# Altium footprint library F407ZGT6.PcbLib: 60 footprints (part 2 of 4)
Each footprint in its own frame and in the unit in brackets; x right, y up, seen from the top. Pads: shape width x height; smd on the part's side, far side on the other; paste and mask are expansions set on the pad; w line width, h text height; cw(c..) or ccw(c..) is an arc to the next point about the centre after c.
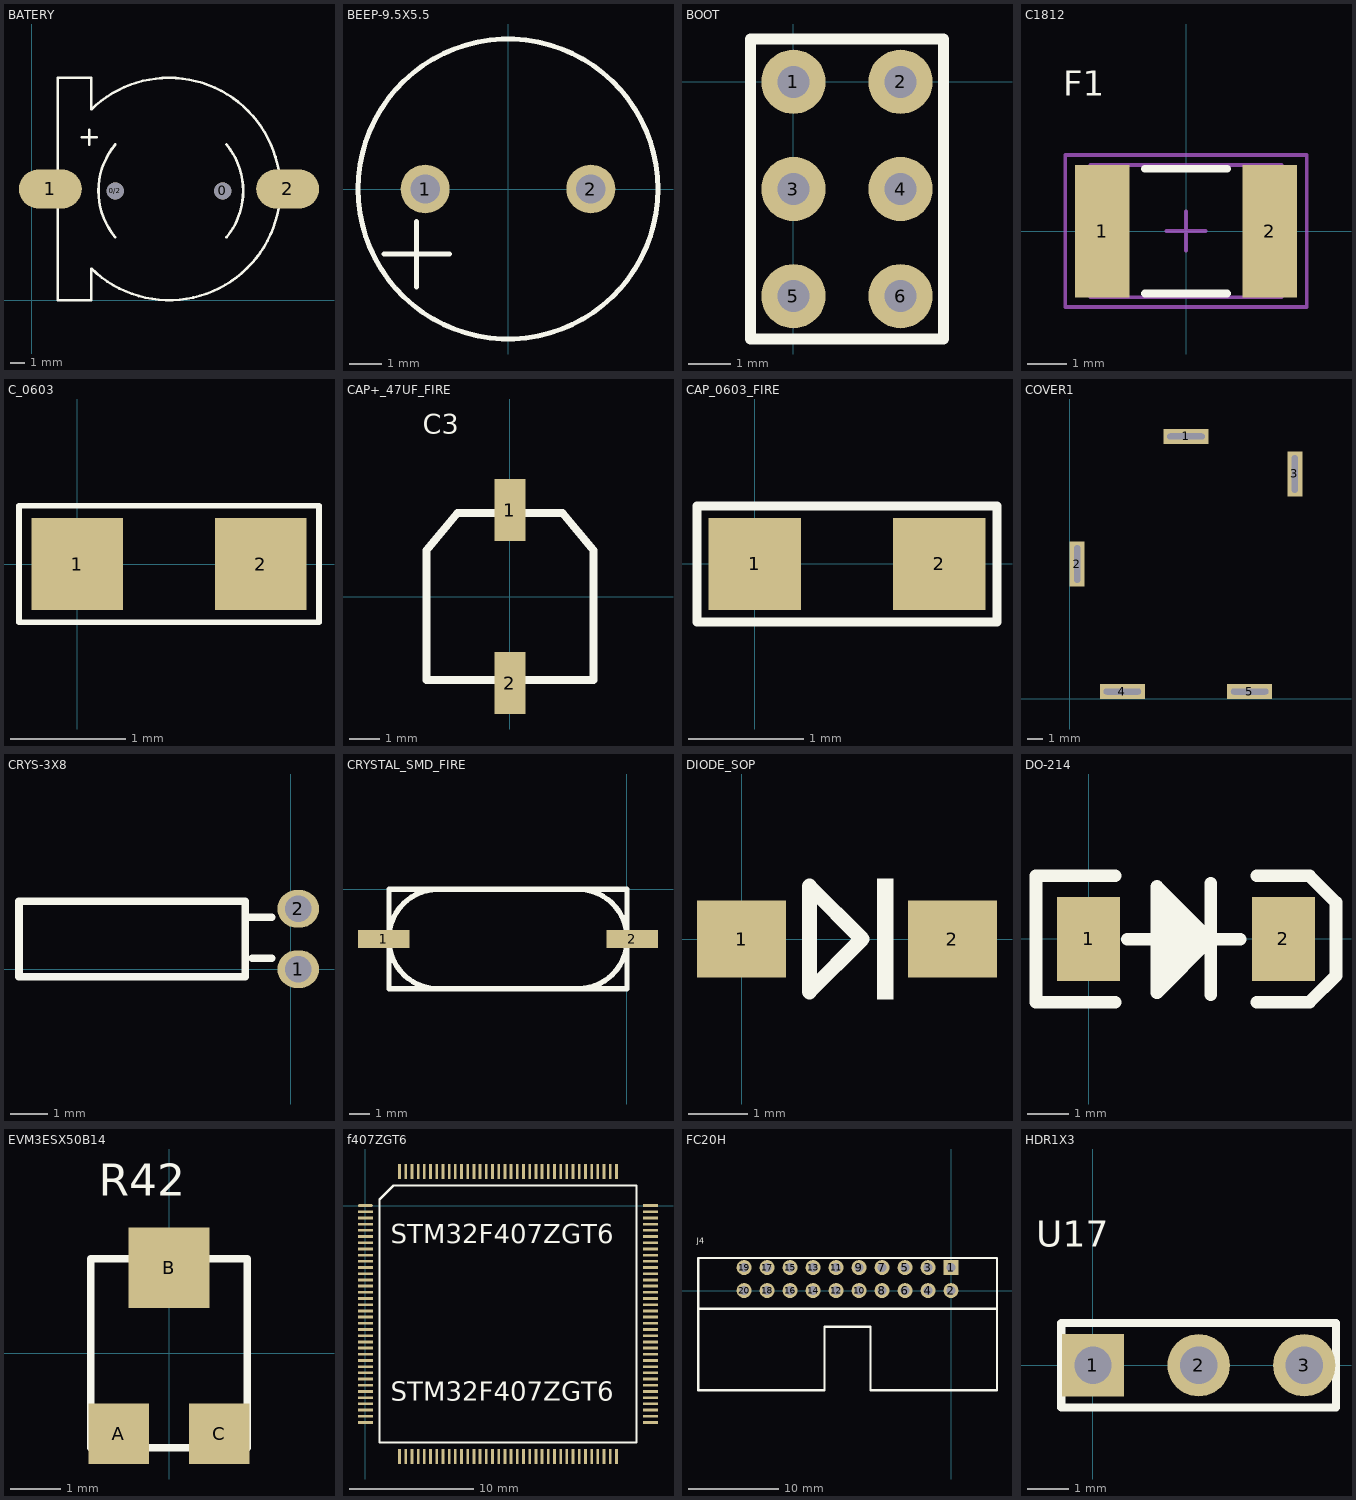
[diagram p1: the footprints below, top view; thin cyan lines are the x and y axes]

## BATERY [mil]
pads (4):
  round 46 hole 46: 0(515,295) 0/2(225,295)
  oval 169.29x106.3 smd: 1(50,300) 2(690,300)
Top Overlay:
  lines w7: 135,440 175,440 ; 155,420 155,460 ; 160.38,85.39 160,0 70,0 70,300 70,600 160,600 160.38,514.61 ; 160.48,85.29 ccw(c370,300) 668.19,267.08 ; 160.48,514.71 cw(c370,300) 370,600 cw(c370,300) 668.19,332.92 ; 224.77,170.28 cw(c375,295) 224.99,419.99 ; 525.01,170.01 ccw(c375,295) 525.01,419.99

## BEEP-9.5X5.5 [mm]
pads (2):
  round 1.5 hole 0.9: 1(-2.54,0) 2(2.54,0)
Top Overlay:
  circle w0.152: c0,0 r4.6
  lines w0.152: -3.8,-2 -1.8,-2 ; -2.8,-3 -2.8,-1

## BOOT [mil]
pads (6):
  round 60 hole 30: 1(0,0) 2(100,0) 3(0,-100) 4(100,-100) 5(0,-200) 6(100,-200)
Top Overlay:
  lines w10: -40,-240 140,-240 140,40 -40,40 -40,-240

## C1812 [mm]
pads (2):
  rect 1.4x3.4 smd: 1(-2.15,0) 2(2.15,0)
Top Overlay:
  lines w0.2: -1.05,-1.6 1.05,-1.6 ; -1.05,1.6 1.05,1.6
  text "F1" at -3.15,3.473 h0.64
Mechanical 16:
  lines w0.1: -0.5,0 0.5,0 ; 0,-0.5 0,0.5 ; -3.1,-1.95 -3.1,1.95 3.1,1.95 3.1,-1.95 -3.1,-1.95 ; -2.45,-1.7 -2.45,1.7 2.45,1.7 2.45,-1.7 -2.45,-1.7

## C_0603 [mm]
pads (2):
  rect 0.8x0.8 smd: 1(0,0) 2(1.6,0)
Top Overlay:
  lines w0.051: -0.508,-0.508 2.108,-0.508 2.108,0.508 -0.508,0.508 -0.508,-0.508

## CAP+_47UF_FIRE [mm]
pads (2):
  rect 1x2 smd: 1(0,2.8) 2(0,-2.8)
Top Overlay:
  lines w0.254: -2.7,-2.7 2.7,-2.7 2.7,1.5 1.7,2.7 -1.7,2.7 -2.7,1.5 -2.7,-2.7
  text "C3" at -2.827,5.273 h0.64

## CAP_0603_FIRE [mm]
pads (2):
  rect 0.8x0.8 smd: 1(0,0) 2(1.6,0)
Top Layer:
  text "C1" at 0.007,-0.143 h0.4
Top Overlay:
  lines w0.076: -0.5,-0.502 -0.5,0.501 2.1,0.501 2.1,-0.502 -0.5,-0.502

## COVER1 [mm]
pads (5):
  rect 3x1 hole 0.4 slot 2.5 at 0 deg: 1(7.75,17.5) 4(3.5,0.5) 5(12,0.5)
  rect 1x3 hole 0.4 slot 2.5 at 90 deg: 2(0.5,9) 3(15,15)

## CRYS-3X8 [mm]
pads (2):
  oval 1.1x1 hole 0.7: 1(0.199,-0.003) 2(0.199,1.597)
Top Overlay:
  lines w0.2: -1.09,1.375 -0.5,1.375 ; -1.022,0.292 -0.5,0.292 ; -7.2,-0.2 -7.2,1.8 -1.2,1.8 -1.2,-0.2 -7.2,-0.2

## CRYSTAL_SMD_FIRE [mm]
pads (2):
  rect 2.5x0.85 smd: 1(-11.75,-2.4) 2(0.25,-2.4)
Top Overlay:
  lines w0.254: -11.5,-2.469 -11.5,-2.4 ; -11.5,-2.468 ccw(c-9.135,-2.435) -9.102,-4.8 ; -11.5,-2.398 cw(c-9.135,-2.365) -9.168,0 ; -2.398,0 cw(c-2.365,-2.365) 0,-2.332 ; -2.332,-4.8 ccw(c-2.365,-2.435) 0,-2.402 ; 0,-2.4 0,-2.331 ; -11.5,-4.8 -11.5,0 0,0 0,-4.8 -11.5,-4.8

## DIODE_SOP [mm]
pads (2):
  rect 1.5x1.3 smd: 1(0,0) 2(3.556,0)
Top Overlay:
  region: 2.286,-1.016 2.559,-1.016 2.559,1.016 2.286,1.016
  lines w0.254: 1.143,-0.889 1.143,0.889 2.032,0 1.143,-0.889

## DO-214 [mil]
pads (2):
  rect 60x80 smd: 1(0,0) 2(185,0)
Top Overlay:
  region: 64.92,-25.05 91,-25.05 91,22.87 64.92,22.87
  lines w12: 25,-60 -50,-60 -50,60 25,60 ; 36.92,-0.13 143.92,-0.13 ; 64.92,33.87 100.29,-1.51 66.66,-35.13 ; 115.92,-53.13 115.92,52.87 ; 160,-60 209.92,-60 235,-34.92 235,34.87 209.87,60 160,60 ; 64.92,-51.13 115.92,-0.13 115.92,-1.13 64.92,49.87 64.92,-51.13

## EVM3ESX50B14 [mm]
pads (3):
  rect 1.2x1.2 smd: A(-1,-1.6) C(1,-1.6)
  rect 1.6x1.6 smd: B(0,1.7)
Top Overlay:
  lines w0.15: -1.55,-1.875 -1.55,1.875 1.55,1.875 1.55,-1.875 -1.55,-1.875
  text "R42" at -1.397,3.124 h0.64

## f407ZGT6 [mm]
pads (144):
  oval 1.2x0.22 smd: 1(0,0)
  rect 1.2x0.22 smd: 2(0,-0.5) 3(0,-1) 4(0,-1.5) 5(0,-2) 6(0,-2.5) 7(0,-3) 8(0,-3.5) 9(0,-4) 10(0,-4.5) 11(0,-5) 12(0,-5.5) 13(0,-6) 14(0,-6.5) 15(0,-7) 16(0,-7.5) 17(0,-8) 18(0,-8.5) 19(0,-9) 20(0,-9.5) 21(0,-10) 22(0,-10.5) 23(0,-11) 24(0,-11.5) 25(0,-12) 26(0,-12.5) 27(0,-13) 28(0,-13.5) 29(0,-14) 30(0,-14.5) 31(0,-15) 32(0,-15.5) 33(0,-16) 34(0,-16.5) 35(0,-17) 36(0,-17.5) 73(23,-17.5) 74(23,-17) 75(23,-16.5) 76(23,-16) 77(23,-15.5) 78(23,-15) 79(23,-14.5) 80(23,-14) 81(23,-13.5) 82(23,-13) 83(23,-12.5) 84(23,-12) 85(23,-11.5) 86(23,-11) 87(23,-10.5) 88(23,-10) 89(23,-9.5) 90(23,-9) 91(23,-8.5) 92(23,-8) 93(23,-7.5) 94(23,-7) 95(23,-6.5) 96(23,-6) 97(23,-5.5) 98(23,-5) 99(23,-4.5) 100(23,-4) 101(23,-3.5) 102(23,-3) 103(23,-2.5) 104(23,-2) 105(23,-1.5) 106(23,-1) 107(23,-0.5) 108(23,0)
  rect 0.22x1.2 smd: 37(2.75,-20.25) 38(3.25,-20.25) 39(3.75,-20.25) 40(4.25,-20.25) 41(4.75,-20.25) 42(5.25,-20.25) 43(5.75,-20.25) 44(6.25,-20.25) 45(6.75,-20.25) 46(7.25,-20.25) 47(7.75,-20.25) 48(8.25,-20.25) 49(8.75,-20.25) 50(9.25,-20.25) 51(9.75,-20.25) 52(10.25,-20.25) 53(10.75,-20.25) 54(11.25,-20.25) 55(11.75,-20.25) 56(12.25,-20.25) 57(12.75,-20.25) 58(13.25,-20.25) 59(13.75,-20.25) 60(14.25,-20.25) 61(14.75,-20.25) 62(15.25,-20.25) 63(15.75,-20.25) 64(16.25,-20.25) 65(16.75,-20.25) 66(17.25,-20.25) 67(17.75,-20.25) 68(18.25,-20.25) 69(18.75,-20.25) 70(19.25,-20.25) 71(19.75,-20.25) 72(20.25,-20.25) 109(20.25,2.75) 110(19.75,2.75) 111(19.25,2.75) 112(18.75,2.75) 113(18.25,2.75) 114(17.75,2.75) 115(17.25,2.75) 116(16.75,2.75) 117(16.25,2.75) 118(15.75,2.75) 119(15.25,2.75) 120(14.75,2.75) 121(14.25,2.75) 122(13.75,2.75) 123(13.25,2.75) 124(12.75,2.75) 125(12.25,2.75) 126(11.75,2.75) 127(11.25,2.75) 128(10.75,2.75) 129(10.25,2.75) 130(9.75,2.75) 131(9.25,2.75) 132(8.75,2.75) 133(8.25,2.75) 134(7.75,2.75) 135(7.25,2.75) 136(6.75,2.75) 137(6.25,2.75) 138(5.75,2.75) 139(5.25,2.75) 140(4.75,2.75) 141(4.25,2.75) 142(3.75,2.75) 143(3.25,2.75) 144(2.75,2.75)
Top Overlay:
  lines w0.2: 1.135,-19.115 21.865,-19.115 21.865,1.615 2.27,1.615 1.135,0.48 1.135,-19.115
  text "STM32F407ZGT6" at 2.032,-3.048 h1.52
  text "STM32F407ZGT6" at 2.032,-15.748 h1.52

## FC20H [mil]
pads (20):
  rect 65x65 hole 40: 1(0,100)
  round 65 hole 40: 2(0,0) 3(-100,100) 4(-100,0) 5(-200,100) 6(-200,0) 7(-300,100) 8(-300,0) 9(-400,100) 10(-400,0) 11(-500,100) 12(-500,0) 13(-600,100) 14(-600,0) 15(-700,100) 16(-700,0) 17(-800,100) 18(-800,0) 19(-900,100) 20(-900,0)
Top Overlay:
  lines w10: -1100,-78.74 -1100,-433.07 -550,-433.07 -550,-157.48 -350,-157.48 -350,-433.07 200,-433.07 200,-78.74 ; -1100,-78.74 -1100,141.26 200,141.26 200,-78.74 ; -1100,-78.74 200,-78.74
  text "J4" at -1105,204.26 h25

## HDR1X3 [mm]
height 1.2
pads (3):
  rect 1.5x1.5 hole 0.9: 1(0,0)
  round 1.5 hole 0.9: 2(2.54,0) 3(5.08,0)
Top Overlay:
  lines w0.2: -0.762,-1.016 5.842,-1.016 5.842,1.016 -0.762,1.016 -0.762,-1.016
  text "U17" at -1.37,2.843 h0.64